# Altium schematic symbol library Conn-TS.SchLib: 1 symbol
Pins are listed as number, name and electrical type; pins without a type are passive.

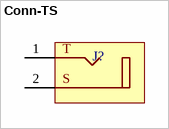
[diagram p0: symbol Conn-TS]

## Conn-TS
designator J?  (value not drawn)
pins: 1 T (power), 2 S (power)